# EAGLE library part VWRAS-DXX-DXX-SIP (library charleses_parts_bin)
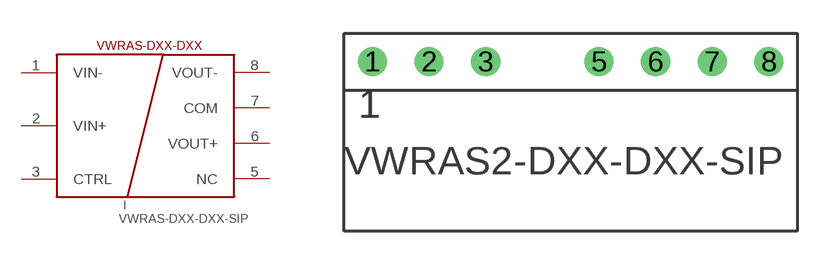
[diagram p10: symbol with the pads of VWRAS2-8SIP; footprint VWRAS2-8SIP]

Designator prefix I

## VWRAS-DXX-DXX-SIP  [VWRAS2-8SIP]
1  VIN-
2  VIN+
3  CTRL
5  NC
6  VOUT+
7  COM
8  VOUT-

## Footprint VWRAS2-8SIP (pad centres in mm)
drill 0.8 round: 1 -7.62,2.54; 2 -5.08,2.54; 3 -2.54,2.54; 5 2.54,2.54; 6 5.08,2.54; 7 7.62,2.54; 8 10.16,2.54